# Altium integrated library CAP_Tantalum.IntLib: 19 symbols
Pins are listed as number, name and electrical type; pins without a type are passive.

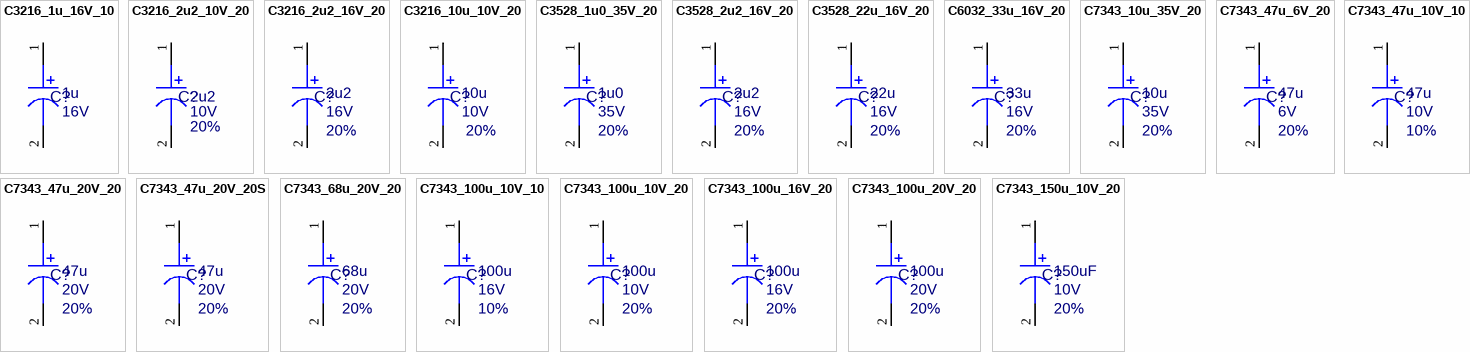
[diagram p0: symbols C3216_1u_16V_10 to C7343_150u_10V_20]

## C3216_1u_16V_10
designator C?, comment value 1u  Power Rating: 16V  (hidden comment: CXW1U000K016NA)
Capacitor, 1uF 10% 16V; ECAD_Revision: 1; Librarian: UK; PartNumber: CXW1U000K016NA; Item: *; Tolerance: 10%
simulation model CAP
footprint C3216
pins: 1, 2

## C3216_2u2_10V_20
designator C?, comment value 2u2  Power Rating: 10V  Tolerance: 20%  (hidden comment: 53633-3008)
Capacitor, 2.2uF 10V; ECAD_Revision: 1; Librarian: US; PartNumber: 53633-3008; Item: *
simulation model CAP
footprint C3216
pins: 1, 2

## C3216_2u2_16V_20
designator C?, comment value 2u2  Power Rating: 16V  Tolerance: 20%  (hidden comment: 53633-4006)
Capacitor, 2.2uF 16V; ECAD_Revision: 1; Librarian: US; PartNumber: 53633-4006; Item: *
simulation model CAP
footprint C3216
pins: 1, 2

## C3216_10u_10V_20
designator C?, comment value 10u  Power Rating: 10V  Tolerance: 20%  (hidden comment: 53633-3040)
Capacitor, 10uF 10V; ECAD_Revision: 1; Librarian: US; PartNumber: 53633-3040; Item: *
simulation model CAP
footprint C3216
pins: 1, 2

## C3528_1u0_35V_20
designator C?, comment value 1u0  Power Rating: 35V  Tolerance: 20%  (hidden comment: 53633-6068)
Capacitor, 1.0uF 35V; ECAD_Revision: 1; Librarian: US; PartNumber: 53633-6068; Item: *
simulation model CAP
footprint C3528
pins: 1, 2

## C3528_2u2_16V_20
designator C?, comment value 2u2  Power Rating: 16V  Tolerance: 20%  (hidden comment: 27451-0759)
Capacitor, 2.2uF 16V; ECAD_Revision: 1; Librarian: US; PartNumber: 27451-0759; Item: *
simulation model CAP
footprint C3528
pins: 1, 2

## C3528_22u_16V_20
designator C?, comment value 22u  Power Rating: 16V  Tolerance: 20%  (hidden comment: 53633-4063)
Capacitor, 22uF 16V; ECAD_Revision: 1; Librarian: US; PartNumber: 53633-4063; Item: *
simulation model CAP
footprint C3528
pins: 1, 2

## C6032_33u_16V_20
designator C?, comment value 33u  Power Rating: 16V  Tolerance: 20%  (hidden comment: 53633-4071)
Capacitor, 33uF 16V; ECAD_Revision: 1; Librarian: US; PartNumber: 53633-4071; Item: *
simulation model CAP
footprint C6032
pins: 1, 2

## C7343_10u_35V_20
designator C?, comment value 10u  Power Rating: 35V  Tolerance: 20%  (hidden comment: 53633-6126)
Capacitor, 10uF 35V; ECAD_Revision: 1; Librarian: US; PartNumber: 53633-6126; Item: *
simulation model CAP
footprint C7343
pins: 1, 2

## C7343_47u_6V_20
designator C?, comment value 47u  Power Rating: 6V  Tolerance: 20%  (hidden comment: 27451-0395)
Capacitor, 47uF 6.3V; ECAD_Revision: 1; Librarian: US; PartNumber: 27451-0395; Item: *
simulation model CAP
footprint C7343
pins: 1, 2

## C7343_47u_10V_10
designator C?, comment value 47u  Power Rating: 10V  Tolerance: 10%  (hidden comment: AWT25-000232)
Capacitor, 47uF 10% 10V; ECAD_Revision: 1; Librarian: UK; PartNumber: AWT25-000232; Item: *
simulation model CAP
footprint C7343
pins: 1, 2

## C7343_47u_20V_20
designator C?, comment value 47u  Power Rating: 20V  Tolerance: 20%  (hidden comment: 53633-5110)
Capacitor, 47uF 10V; ECAD_Revision: 1; Librarian: US; PartNumber: 53633-5110; Item: *
simulation model CAP
footprint C7343
pins: 1, 2

## C7343_47u_20V_20S
designator C?, comment value 47u  Power Rating: 20V  Tolerance: 20%  (hidden comment: AWT25-000147)
Capacitor, 47uF 20% 20V; ECAD_Revision: 1; Librarian: UK; PartNumber: AWT25-000147; Item: *
simulation model CAP
footprint C7343
pins: 1, 2

## C7343_68u_20V_20
designator C?, comment value 68u  Power Rating: 20V  Tolerance: 20%  (hidden comment: AWT25-000146)
Capacitor, 100uF 20% 20V; ECAD_Revision: 1; Librarian: UK; PartNumber: AWT25-000146; Item: *
simulation model CAP
footprint C7343
pins: 1, 2

## C7343_100u_10V_10
designator C?, comment value 100u  Power Rating: 16V  Tolerance: 10%  (hidden comment: CXW100U0K010NA)
Capacitor, 100uF 10V; ECAD_Revision: 1; Librarian: UK; PartNumber: CXW100U0K010NA; Item: *
simulation model CAP
footprint C7343-43 (Rev. 1 Kemet T495 Case size X)
pins: 1, 2

## C7343_100u_10V_20
designator C?, comment value 100u  Power Rating: 10V  Tolerance: 20%  (hidden comment: 53633-3156)
Capacitor, 100uF 10V; ECAD_Revision: 1; Librarian: US; PartNumber: 53633-3156; Item: *
simulation model CAP
footprint C7343-43 (Rev. 1 Kemet T495 Case size X)
pins: 1, 2

## C7343_100u_16V_20
designator C?, comment value 100u  Power Rating: 16V  Tolerance: 20%  (hidden comment: 53633-4105)
Capacitor, 100uF 16V; ECAD_Revision: 1; Librarian: US; PartNumber: 53633-4105; Item: *
simulation model CAP
footprint C7343
pins: 1, 2

## C7343_100u_20V_20
designator C?, comment value 100u  Power Rating: 20V  Tolerance: 20%  (hidden comment: AWT25-000145)
Capacitor, 100uF 20% 20V; ECAD_Revision: 1; Librarian: UK; PartNumber: AWT25-000145; Item: *
simulation model CAP
footprint C7343
pins: 1, 2

## C7343_150u_10V_20
designator C?, comment value 150uF  Power Rating: 10V  Tolerance: 20%  (hidden comment: AWT25-000178)
Capacitor, 150uF 10V; ECAD_Revision: 1; Librarian: US; PartNumber: AWT25-000178; Item: *
simulation model CAP
footprint C7343
pins: 1, 2